# Altium integrated library Crystals.IntLib: 2 symbols
Pins are listed as number, name and electrical type; pins without a type are passive.

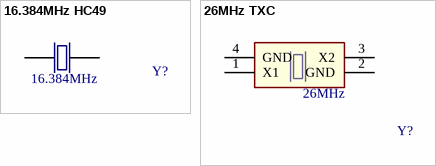
[diagram p0: symbols 16.384MHz HC49 to 26MHz TXC]

## 16.384MHz HC49
designator Y?  Frequency: 16.384MHz  (hidden comment: 16.384MHz HC49)
16.384MHz ±30ppm Crystal 18pF 40 Ohms HC-49/US; Manufacturer 1: Abracon LLC; Manufacturer 1 PN: ABLS-16.384MHZ-B4-T; ComponentLink1Description: Datasheet; ComponentLink1URL: https://abracon.com/Resonators/abls.pdf; Digikey PN: 535-10227-1-ND; Mouser PN: 815-ABLS-16.384M-T
footprint 16.384MHz HC49 (16.384MHz ±30ppm Crystal 18pF 40 Ohms HC-49/US)
pins: 1 (power), 2 (power)

## 26MHz TXC
designator Y?  Frequency: 26MHz  (hidden comment: 26MHz TXC)
26MHz ±10ppm Crystal 12pF 60 Ohms 4-SMD, No Lead; Manufacturer 1: EPSON; Manufacturer 1 PN: FA-128 26.0000MF10Z-W5; ComponentLink1Description: Datasheet; ComponentLink1URL: https://support.epson.biz/td/api/doc_check.php?dl=brief_FA-128&lang=en; Digikey PN: SER4186CT-ND
footprint 26MHz TXC (26MHz ±10ppm Crystal 12pF 60 Ohms 4-SMD, No Lead)
pins: 1 X1 (power), 2 GND (power), 3 X2 (power), 4 GND (power)